# EAGLE library part LS7766SH (library lsi-computer-systems)
32-BIT SINGLE- AXIS/DUAL-AXIS QUADRATURE COUNTER Source: http://www.lsicsi.com/pdfs/Data_Sheets/LS7766.pdf
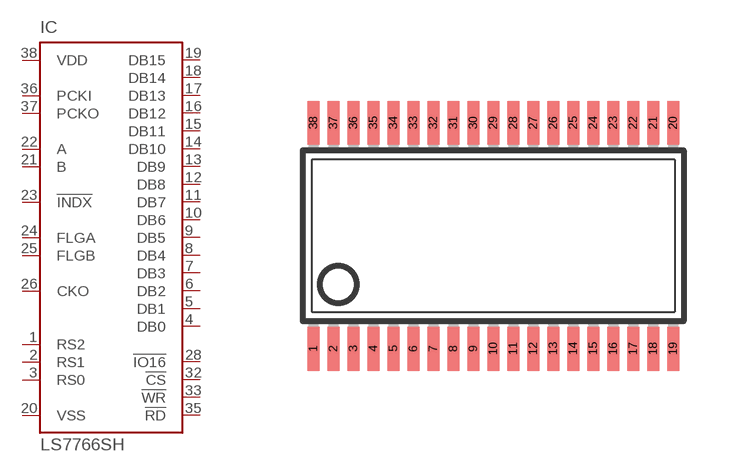
[diagram p1: symbol with the pads of TSSOP38; footprint TSSOP38]

Designator prefix IC

## LS7766SH-TS  [TSSOP38]
1  RS2  in
2  RS1  in
3  RS0  in
4  DB0  hiz
5  DB1  hiz
6  DB2  hiz
7  DB3  hiz
8  DB4  hiz
9  DB5  hiz
10  DB6  hiz
11  DB7  hiz
12  DB8  hiz
13  DB9  hiz
14  DB10  hiz
15  DB11  hiz
16  DB12  hiz
17  DB13  hiz
18  DB14  hiz
19  DB15  hiz
20  VSS  pwr
21  B  in
22  A  in
23  !INDX  in
24  FLGA  out
25  FLGB  out
26  CKO  out
28  !IO16  in
32  !CS  in
33  !WR  in
35  !RD  in
36  PCKI  in
37  PCKO  out
38  VDD  pwr

## Footprint TSSOP38 (pad centres in mm)
Thin Shrink Small Outline Plastic 38 Source: http://www.lsicsi.com/pdfs/Drawings/TSSOP_OD.pdf
smd 0.3 x 1.1: 1 -4.5,-2.825; 2 -4,-2.825; 3 -3.5,-2.825; 4 -3,-2.825; 5 -2.5,-2.825; 6 -2,-2.825; 7 -1.5,-2.825; 8 -1,-2.825; 9 -0.5,-2.825; 10 0,-2.825; 11 0.5,-2.825; 12 1,-2.825; 13 1.5,-2.825; 14 2,-2.825; 15 2.5,-2.825; 16 3,-2.825; 17 3.5,-2.825; 18 4,-2.825; 19 4.5,-2.825; 20 4.5,2.825; 21 4,2.825; 22 3.5,2.825; 23 3,2.825; 24 2.5,2.825; 25 2,2.825; 26 1.5,2.825; 27 1,2.825; 28 0.5,2.825; 29 0,2.825; 30 -0.5,2.825; 31 -1,2.825; 32 -1.5,2.825; 33 -2,2.825; 34 -2.5,2.825; 35 -3,2.825; 36 -3.5,2.825; 37 -4,2.825; 38 -4.5,2.825